# Altium footprint library UFBGA$100N0.50P10X10_7.0X7.0X0.6-100_100.PcbLib: 1 footprints
Each footprint in its own frame and in the unit in brackets; x right, y up, seen from the top. Pads: shape width x height; smd on the part's side, far side on the other; paste and mask are expansions set on the pad; w line width, h text height; cw(c..) or ccw(c..) is an arc to the next point about the centre after c.
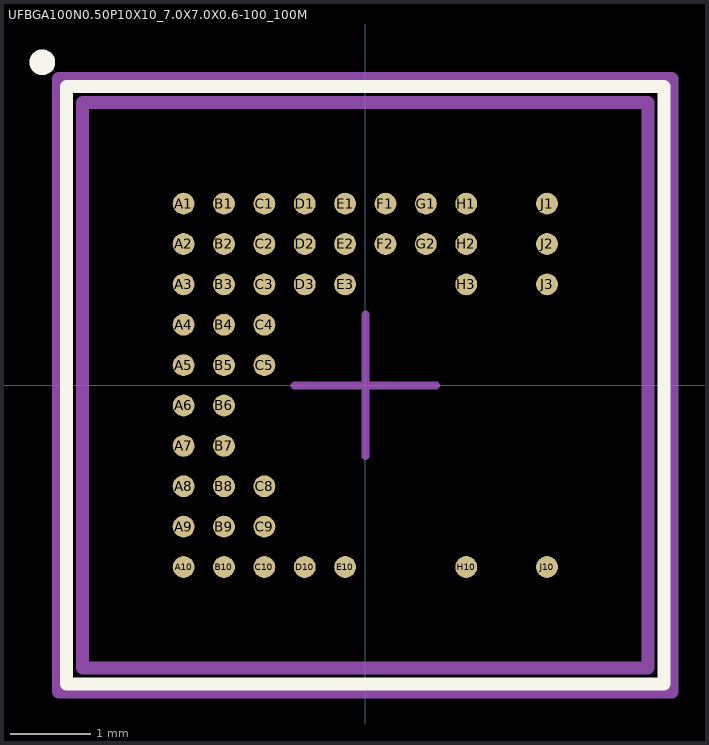
[diagram p0: the footprint, top view; thin cyan lines are the x and y axes]

## UFBGA100N0.50P10X10_7.0X7.0X0.6-100_100M [mm] "UFBGA 100 7x7x0.6 P 0.5 mm"
height 0.6
pads (48):
  round 0.27 smd: A1(-2.25,2.25) A2(-2.25,1.75) A3(-2.25,1.25) A4(-2.25,0.75) A5(-2.25,0.25) A6(-2.25,-0.25) A7(-2.25,-0.75) A8(-2.25,-1.25) A9(-2.25,-1.75) A10(-2.25,-2.25) B1(-1.75,2.25) B2(-1.75,1.75) B3(-1.75,1.25) B4(-1.75,0.75) B5(-1.75,0.25) B6(-1.75,-0.25) B7(-1.75,-0.75) B8(-1.75,-1.25) B9(-1.75,-1.75) B10(-1.75,-2.25) C1(-1.25,2.25) C2(-1.25,1.75) C3(-1.25,1.25) C4(-1.25,0.75) C5(-1.25,0.25) C8(-1.25,-1.25) C9(-1.25,-1.75) C10(-1.25,-2.25) D1(-0.75,2.25) D2(-0.75,1.75) D3(-0.75,1.25) D10(-0.75,-2.25) E1(-0.25,2.25) E2(-0.25,1.75) E3(-0.25,1.25) E10(-0.25,-2.25) F1(0.25,2.25) F2(0.25,1.75) G1(0.75,2.25) G2(0.75,1.75) H1(1.25,2.25) H2(1.25,1.75) H3(1.25,1.25) H10(1.25,-2.25) J1(2.25,2.25) J2(2.25,1.75) J3(2.25,1.25) J10(2.25,-2.25)
Top Overlay:
  circle w0.16: c-4,4 r0.08
  lines w0.16: -3.7,-3.7 3.7,-3.7 3.7,3.7 -3.7,3.7 -3.7,-3.7
Top Component Center:
  lines w0.1: -0.875,0 0.875,0 ; 0,-0.875 0,0.875
Top Courtyard:
  lines w0.16: -3.8,-3.8 3.8,-3.8 3.8,3.8 -3.8,3.8 -3.8,-3.8
Top Assembly:
  lines w0.16: -3.5,-3.5 3.5,-3.5 3.5,3.5 -3.5,3.5 -3.5,-3.5
3D body "UFBGA100N0.50P10X10_7.0X7.0X0.6-100_100M.STEP": height 0.6, standoff 0, extent -3.5,-3.5 3.5,3.5